# Altium footprint library PCB - SWITCH - COTO TECHNOLOGY - CT10 G1.PCBLIB: 1 footprints
Each footprint in its own frame and in the unit in brackets; x right, y up, seen from the top. Pads: shape width x height; smd on the part's side, far side on the other; paste and mask are expansions set on the pad; w line width, h text height; cw(c..) or ccw(c..) is an arc to the next point about the centre after c.
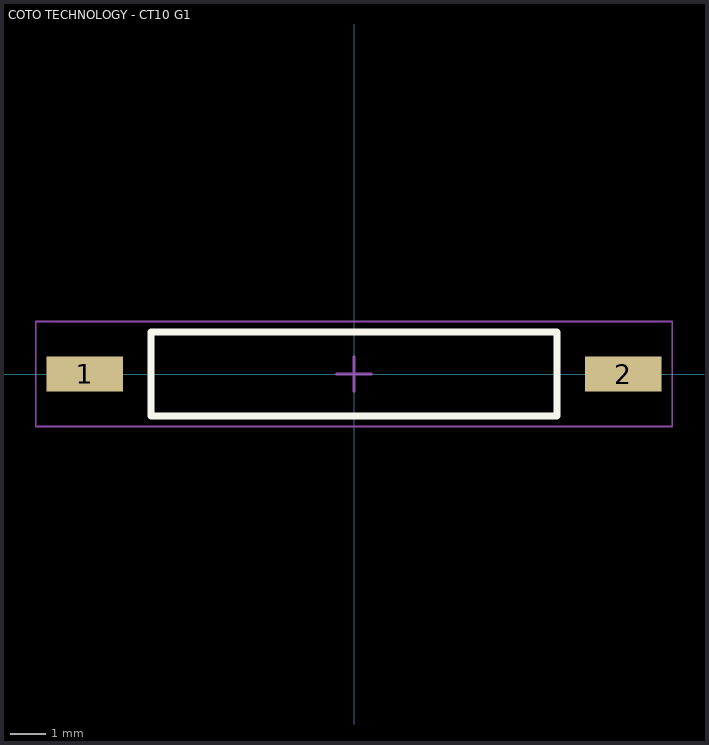
[diagram p0: the footprint, top view; thin cyan lines are the x and y axes]

## COTO TECHNOLOGY - CT10 G1 [mm] "Switch, Body 16.38x2.92x2.41mm, IPC Medium Density"
height 2.92
pads (2):
  rect 2.2x1 smd: 1(-7.7,0) 2(7.7,0)
Top Overlay:
  lines w0.2: -5.8,-1.2 -5.8,1.2 5.8,1.2 5.8,-1.2 -5.8,-1.2
Mechanical 13:
  lines w0.1: -5.8,-1.2 -5.8,1.2 5.8,1.2 5.8,-1.2 -5.8,-1.2
Mechanical 15:
  lines w0.05: -9.1,-1.5 9.1,-1.5 9.1,1.5 -9.1,1.5 -9.1,-1.5
  lines w0.1: -0.5,0 0.5,0 ; 0,-0.5 0,0.5
3D body "Coto Technology - CT10 - L16.26mm.step": height 2.96, standoff 0.01, extent -8.232,-1.205 8.232,1.205